# EAGLE library part CTS-252 (library Mechanical)
CTS 252 joystick with two potentiometers.
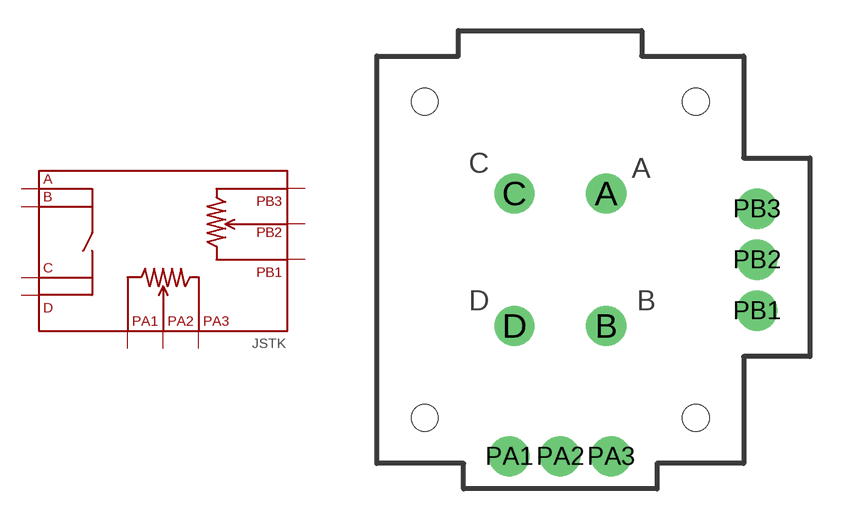
[diagram p57: symbol with the pads of CTS252; footprint CTS252]

Designator prefix JSTK

## CTS-252  [CTS252]
A  A
B  B
C  C
D  D
PA1  PA1
PA2  PA2
PA3  PA3
PB1  PB1
PB2  PB2
PB3  PB3

## Footprint CTS252 (pad centres in mm)
CTS252 series joyStick with potentiometers
drill 1.321: A 2,3.5; B 2,-3; C -2.5,3.5; D -2.5,-3; PA1 -2.75,-9.4; PA2 -0.25,-9.4; PA3 2.25,-9.4; PB1 9.4,-2.25; PB2 9.4,0.25; PB3 9.4,2.75
hole 1.321 at 6.4,8
hole 1.321 at 6.4,-7.5
hole 1.321 at -6.9,-7.5
hole 1.321 at -6.9,8